# EAGLE library part 691311500112 (library Terminal Blocks)
WR-TBL Series 311 - 5.08 mm Manufacturer's datasheet <https://katalog.we-online.com/em/datasheet/691311500112.pdf>
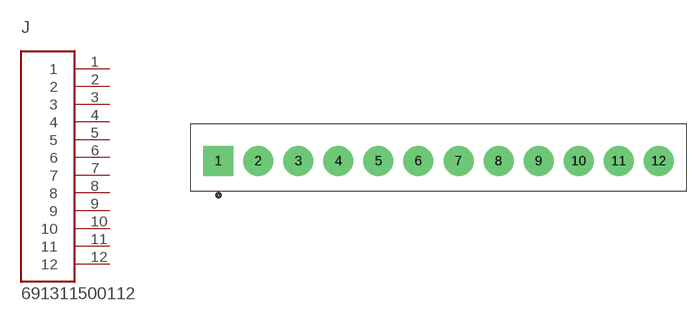
[diagram p5: symbol with the pads of TERMINALBLOCK_PLUGGABLE-12-5.08MM; footprint TERMINALBLOCK_PLUGGABLE-12-5.08MM]

Designator prefix J

## 691311500112 (CREATED_BY: PCBLayout.com; MANUFACTURER: WURTH ELEKTRONIK; MPN: 691311500112)  [TERMINALBLOCK_PLUGGABLE-12-5.08MM]
1  1  pas
2  2  pas
3  3  pas
4  4  pas
5  5  pas
6  6  pas
7  7  pas
8  8  pas
9  9  pas
10  10  pas
11  11  pas
12  12  pas

## Footprint TERMINALBLOCK_PLUGGABLE-12-5.08MM (pad centres in mm)
drill 1.6 pad 3.81 square: 1 -27.94,0
drill 1.6 pad 3.81: 2 -22.86,0; 3 -17.78,0; 4 -12.7,0; 5 -7.62,0; 6 -2.54,0; 7 2.54,0; 8 7.62,0; 9 12.7,0; 10 17.78,0; 11 22.86,0; 12 27.94,0